# Altium schematic symbol library WS-RSTV.SchLib: 28 symbols
Pins are listed as number, name and electrical type; pins without a type are passive.

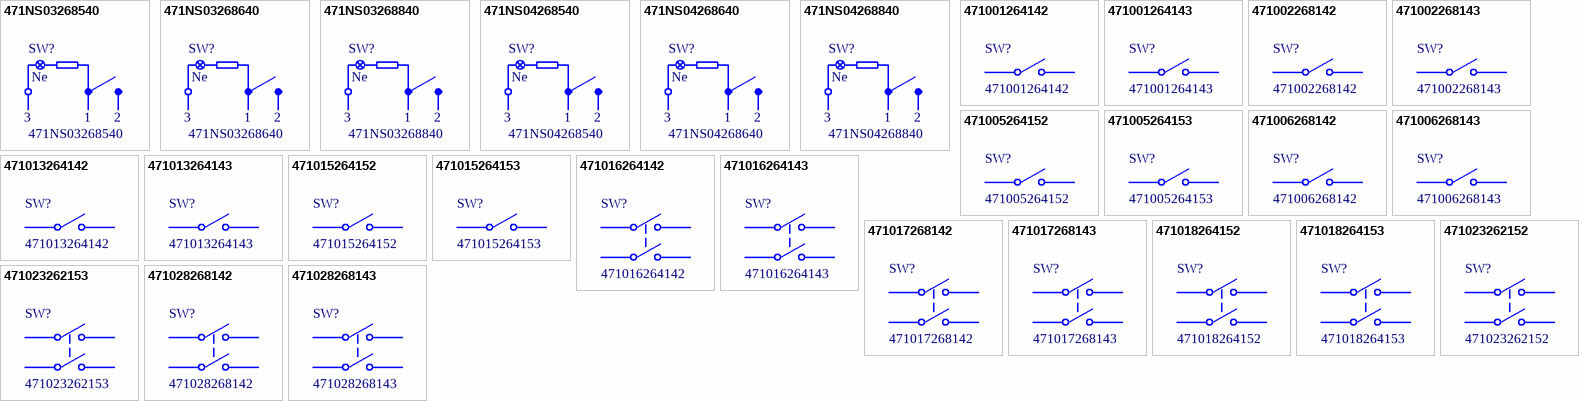
[diagram p0: symbols 471NS03268540 to 471028268143]

## 471NS03268540
designator SW?
WS-RSTV Illuminated panel Cut-out Ø 20.2 mm with 0.187’’ quick connect terminal Rocker switch, SPST, 250V, 10A; Manufacturer: Wurth Elektronik; Actuator Color: Red Transparent; Contact Resistance: 50mΩ; Frame Color: Black; Ingress Protection Code: None; Manufacturer Part Number: 471NS03268540; Category: Rocker Switch; Match Code: WS-RSTV; ComponentLink1Description: Website Link; ComponentLink1URL: https://www.we-online.com/redexpert/article/471NS03268540?ad; ComponentLink2Description: Datasheet Link; ComponentLink2URL: https://www.we-online.com/redexpert/spec/471NS03268540?ad; Mount: Manual; Min Operating Temperature: 0°C; Max Operating Temperature: 85°C; Packaging: Tray; Circuit: SPST; Rated Current: 10A; Rated Voltage: 250V
footprint 471NS03268540_Panel 1.5mm
footprint 471NS03268540_Panel 2.5/3mm
text: Ne; 3; 1; 2

## 471NS03268640
designator SW?
WS-RSTV Illuminated panel Cut-out Ø 20.2 mm with 0.187’’ quick connect terminal Rocker switch, SPST, 250V, 10A; Manufacturer: Wurth Elektronik; Actuator Color: Amber Transparent; Contact Resistance: 50mΩ; Frame Color: Black; Ingress Protection Code: None; Manufacturer Part Number: 471NS03268640; Category: Rocker Switch; Match Code: WS-RSTV; ComponentLink1Description: Website Link; ComponentLink1URL: https://www.we-online.com/redexpert/article/471NS03268640?ad; ComponentLink2Description: Datasheet Link; ComponentLink2URL: https://www.we-online.com/redexpert/spec/471NS03268640?ad; Mount: Manual; Min Operating Temperature: 0°C; Max Operating Temperature: 85°C; Packaging: Tray; Circuit: SPST; Rated Current: 10A; Rated Voltage: 250V
footprint 471NS03268640_Panel 1.5mm
footprint 471NS03268640_Panel 2.5/3mm
text: Ne; 3; 1; 2

## 471NS03268840
designator SW?
WS-RSTV Illuminated panel Cut-out Ø 20.2 mm with 0.187’’ quick connect terminal Rocker switch, SPST, 250V, 10A; Manufacturer: Wurth Elektronik; Actuator Color: Green Transparent; Contact Resistance: 50mΩ; Frame Color: Black; Ingress Protection Code: None; Manufacturer Part Number: 471NS03268840; Category: Rocker Switch; Match Code: WS-RSTV; ComponentLink1Description: Website Link; ComponentLink1URL: https://www.we-online.com/redexpert/article/471NS03268840?ad; ComponentLink2Description: Datasheet Link; ComponentLink2URL: https://www.we-online.com/redexpert/spec/471NS03268840?ad; Mount: Manual; Min Operating Temperature: 0°C; Max Operating Temperature: 85°C; Packaging: Tray; Circuit: SPST; Rated Current: 10A; Rated Voltage: 250V
footprint 471NS03268840_Panel 1.5mm
footprint 471NS03268840_Panel 2.5/3mm
text: Ne; 3; 1; 2

## 471NS04268540
designator SW?
WS-RSTV Illuminated panel Cut-out Ø 20.2 mm with 0.187’’ quick connect terminal Rocker switch, SPST, 250V, 10A; Manufacturer: Wurth Elektronik; Actuator Color: Red Transparent; Contact Resistance: 50mΩ; Frame Color: Black; Ingress Protection Code: None; Manufacturer Part Number: 471NS04268540; Category: Rocker Switch; Match Code: WS-RSTV; ComponentLink1Description: Website Link; ComponentLink1URL: https://www.we-online.com/redexpert/article/471NS04268540?ad; ComponentLink2Description: Datasheet Link; ComponentLink2URL: https://www.we-online.com/redexpert/spec/471NS04268540?ad; Mount: Manual; Min Operating Temperature: 0°C; Max Operating Temperature: 85°C; Packaging: Tray; Circuit: SPST; Rated Current: 10A; Rated Voltage: 250V
footprint 471NS04268540_Panel 1.5mm
footprint 471NS04268540_Panel 2.5/3mm
text: Ne; 3; 1; 2

## 471NS04268640
designator SW?
WS-RSTV Illuminated panel Cut-out Ø 20.2 mm with 0.187’’ quick connect terminal Rocker switch, SPST, 250V, 10A; Manufacturer: Wurth Elektronik; Actuator Color: Amber Transparent; Contact Resistance: 50mΩ; Frame Color: Black; Ingress Protection Code: None; Manufacturer Part Number: 471NS04268640; Category: Rocker Switch; Match Code: WS-RSTV; ComponentLink1Description: Website Link; ComponentLink1URL: https://www.we-online.com/redexpert/article/471NS04268640?ad; ComponentLink2Description: Datasheet Link; ComponentLink2URL: https://www.we-online.com/redexpert/spec/471NS04268640?ad; Mount: Manual; Min Operating Temperature: 0°C; Max Operating Temperature: 85°C; Packaging: Tray; Circuit: SPST; Rated Current: 10A; Rated Voltage: 250V
footprint 471NS04268640_Panel 1.5mm
footprint 471NS04268640_Panel 2.5/3mm
text: Ne; 3; 1; 2

## 471NS04268840
designator SW?
WS-RSTV Illuminated panel Cut-out Ø 20.2 mm with 0.187’’ quick connect terminal Rocker switch, SPST, 250V, 10A; Manufacturer: Wurth Elektronik; Actuator Color: Green Transparent; Contact Resistance: 50mΩ; Frame Color: Black; Ingress Protection Code: None; Manufacturer Part Number: 471NS04268840; Category: Rocker Switch; Match Code: WS-RSTV; ComponentLink1Description: Website Link; ComponentLink1URL: https://www.we-online.com/redexpert/article/471NS04268840?ad; ComponentLink2Description: Datasheet Link; ComponentLink2URL: https://www.we-online.com/redexpert/spec/471NS04268840?ad; Mount: Manual; Min Operating Temperature: 0°C; Max Operating Temperature: 85°C; Packaging: Tray; Circuit: SPST; Rated Current: 10A; Rated Voltage: 250V
footprint 471NS04268840_Panel 1.5mm
footprint 471NS04268840_Panel 2.5/3mm
text: Ne; 3; 1; 2

## 471001264142
designator SW?
WS-RSTV 19.2 x 12.9 mm Panel Cut-Out Rocker Switch with 0.187” quick connect terminal, SPST, 250V, 16A; Manufacturer: Wurth Elektronik; Actuator Color: Black; Contact Resistance: 20mΩ; Ingress Protection Code: None; Manufacturer Part Number: 471001264142; Category: Rocker Switch; Match Code: WS-RSTV; ComponentLink1Description: Website Link; ComponentLink1URL: https://www.we-online.com/redexpert/article/471001264142?ad; ComponentLink2Description: Datasheet Link; ComponentLink2URL: https://www.we-online.com/redexpert/spec/471001264142?ad; Mount: Manual; Min Operating Temperature: 0°C; Max Operating Temperature: 85°C; Packaging: Bulk; Circuit: SPST; Frame Color: Black; Rated Current: 16A; Rated Voltage: 250V
footprint 471001264142_Panel 0.75-1.25mm
footprint 471001264142_Panel 1.25-2mm
footprint 471001264142_Panel 2-3mm

## 471001264143
designator SW?
WS-RSTV 19.2 x 12.9 mm Panel Cut-Out Rocker Switch with 0.187” quick connect terminal, SPST, 250V, 16A; Manufacturer: Wurth Elektronik; Actuator Color: Black; Contact Resistance: 20mΩ; Ingress Protection Code: None; Manufacturer Part Number: 471001264143; Category: Rocker Switch; Match Code: WS-RSTV; ComponentLink1Description: Website Link; ComponentLink1URL: https://www.we-online.com/redexpert/article/471001264143?ad; ComponentLink2Description: Datasheet Link; ComponentLink2URL: https://www.we-online.com/redexpert/spec/471001264143?ad; Mount: Manual; Min Operating Temperature: 0°C; Max Operating Temperature: 85°C; Packaging: Bulk; Circuit: SPST; Frame Color: Black; Rated Current: 16A; Rated Voltage: 250V
footprint 471001264143_Panel 0.75-1.25mm
footprint 471001264143_Panel 1.25-2mm
footprint 471001264143_Panel 2-3mm

## 471002268142
designator SW?
WS-RSTV Ø 20.2 mm Panel Cut-Out Rocker Switch with 0.187" quick connect terminal (SPST), SPST, 250V, 10A; Manufacturer: Wurth Elektronik; Actuator Color: Black; Contact Resistance: 50mΩ; Ingress Protection Code: None; Manufacturer Part Number: 471002268142; Category: Rocker Switch; Match Code: WS-RSTV; ComponentLink1Description: Website Link; ComponentLink1URL: https://www.we-online.com/redexpert/article/471002268142?ad; ComponentLink2Description: Datasheet Link; ComponentLink2URL: https://www.we-online.com/redexpert/spec/471002268142?ad; Mount: Manual; Min Operating Temperature: 0°C; Max Operating Temperature: 85°C; Packaging: Tray; Circuit: SPST; Frame Color: Black; Rated Current: 10A; Rated Voltage: 250V
footprint 471002268142_Panel 1.5mm
footprint 471002268142_Panel 2.5/3mm

## 471002268143
designator SW?
WS-RSTV Ø 20.2 mm Panel Cut-Out Rocker Switch with 0.187" quick connect terminal (SPST), SPST, 250V, 10A; Manufacturer: Wurth Elektronik; Actuator Color: Black; Contact Resistance: 50mΩ; Ingress Protection Code: None; Manufacturer Part Number: 471002268143; Category: Rocker Switch; Match Code: WS-RSTV; ComponentLink1Description: Website Link; ComponentLink1URL: https://www.we-online.com/redexpert/article/471002268143?ad; ComponentLink2Description: Datasheet Link; ComponentLink2URL: https://www.we-online.com/redexpert/spec/471002268143?ad; Mount: Manual; Min Operating Temperature: 0°C; Max Operating Temperature: 85°C; Packaging: Tray; Circuit: SPST; Frame Color: Black; Rated Current: 10A; Rated Voltage: 250V
footprint 471002268143_Panel 1.5mm
footprint 471002268143_Panel 2.5/3mm

## 471005264152
designator SW?
WS-RSTV 27.6 x 13.8 mm Panel Cut-Out Rocker Switch with 0.25'' quick connect terminal, SPST, 250V, 16A; Manufacturer: Wurth Elektronik; Actuator Color: Black; Contact Resistance: 50mΩ; Ingress Protection Code: None; Manufacturer Part Number: 471005264152; Category: Rocker Switch; Match Code: WS-RSTV; ComponentLink1Description: Website Link; ComponentLink1URL: https://www.we-online.com/redexpert/article/471005264152?ad; ComponentLink2Description: Datasheet Link; ComponentLink2URL: https://www.we-online.com/redexpert/spec/471005264152?ad; Mount: Manual; Min Operating Temperature: 0°C; Max Operating Temperature: 85°C; Packaging: Tray; Circuit: SPST; Frame Color: Black; Rated Current: 16A; Rated Voltage: 250V
footprint 471005264152_Panel 1-3mm
footprint 471005264152_Panel 3-4mm
footprint 471005264152_Panel 4-5mm

## 471005264153
designator SW?
WS-RSTV 27.6 x 13.8 mm Panel Cut-Out Rocker Switch with 0.25'' quick connect terminal, SPST, 250V, 16A; Manufacturer: Wurth Elektronik; Actuator Color: Black; Contact Resistance: 50mΩ; Ingress Protection Code: None; Manufacturer Part Number: 471005264153; Category: Rocker Switch; Match Code: WS-RSTV; ComponentLink1Description: Website Link; ComponentLink1URL: https://www.we-online.com/redexpert/article/471005264153?ad; ComponentLink2Description: Datasheet Link; ComponentLink2URL: https://www.we-online.com/redexpert/spec/471005264153?ad; Mount: Manual; Min Operating Temperature: 0°C; Max Operating Temperature: 85°C; Packaging: Tray; Circuit: SPST; Frame Color: Black; Rated Current: 16A; Rated Voltage: 250V
footprint 471005264153_Panel 1-3mm
footprint 471005264153_Panel 3-4mm
footprint 471005264153_Panel 4-5mm

## 471006268142
designator SW?
WS-RSTV IP65 Ø 20.2 mm panel Cut-out with 0.187’’ quick connect terminal Rocker Switch, SPST, 250V, 10A; Manufacturer: Wurth Elektronik; Actuator Color: Black; Contact Resistance: 50mΩ; Manufacturer Part Number: 471006268142; Category: Rocker Switch; Match Code: WS-RSTV; ComponentLink1Description: Website Link; ComponentLink1URL: https://www.we-online.com/redexpert/article/471006268142?ad; ComponentLink2Description: Datasheet Link; ComponentLink2URL: https://www.we-online.com/redexpert/spec/471006268142?ad; Mount: Manual; Min Operating Temperature: 0°C; Max Operating Temperature: 85°C; Packaging: Tray; Circuit: SPST; Frame Color: Black; Ingress Protection Code: IP65; Rated Current: 10A; Rated Voltage: 250V
footprint 471006268142_Panel 1.5mm
footprint 471006268142_Panel 2.5mm

## 471006268143
designator SW?
WS-RSTV IP65 Ø 20.2 mm panel Cut-out with 0.187’’ quick connect terminal Rocker Switch, SPST, 250V, 10A; Manufacturer: Wurth Elektronik; Actuator Color: Black; Contact Resistance: 50mΩ; Manufacturer Part Number: 471006268143; Category: Rocker Switch; Match Code: WS-RSTV; ComponentLink1Description: Website Link; ComponentLink1URL: https://www.we-online.com/redexpert/article/471006268143?ad; ComponentLink2Description: Datasheet Link; ComponentLink2URL: https://www.we-online.com/redexpert/spec/471006268143?ad; Mount: Manual; Min Operating Temperature: 0°C; Max Operating Temperature: 85°C; Packaging: Tray; Circuit: SPST; Frame Color: Black; Ingress Protection Code: IP65; Rated Current: 10A; Rated Voltage: 250V
footprint 471006268143_Panel 1.5mm
footprint 471006268143_Panel 2.5mm

## 471013264142
designator SW?
WS-RSTV 19.2 x 6.8 mm Panel Cut-out with 0.187’’ quick connect terminal, SPST, 250V, 16A; Manufacturer: Wurth Elektronik; Actuator Color: Black; Contact Resistance: 20mΩ; Ingress Protection Code: None; Manufacturer Part Number: 471013264142; Category: Rocker Switch; Match Code: WS-RSTV; ComponentLink1Description: Website Link; ComponentLink1URL: https://www.we-online.com/redexpert/article/471013264142?ad; ComponentLink2Description: Datasheet Link; ComponentLink2URL: https://www.we-online.com/redexpert/spec/471013264142?ad; Mount: Manual; Min Operating Temperature: 0°C; Max Operating Temperature: 85°C; Packaging: Bag; Circuit: SPST; Frame Color: Black; Rated Current: 16A; Rated Voltage: 250V
footprint 471013264142_Panel 0.75-1.25mm
footprint 471013264142_Panel 1.25-2.00mm
footprint 471013264142_Panel 2.00-3.00mm

## 471013264143
designator SW?
WS-RSTV 19.2 x 6.8 mm Panel Cut-out with 0.187’’ quick connect terminal, SPST, 250V, 16A; Manufacturer: Wurth Elektronik; Actuator Color: Black; Contact Resistance: 20mΩ; Ingress Protection Code: None; Manufacturer Part Number: 471013264143; Category: Rocker Switch; Match Code: WS-RSTV; ComponentLink1Description: Website Link; ComponentLink1URL: https://www.we-online.com/redexpert/article/471013264143?ad; ComponentLink2Description: Datasheet Link; ComponentLink2URL: https://www.we-online.com/redexpert/spec/471013264143?ad; Mount: Manual; Min Operating Temperature: 0°C; Max Operating Temperature: 85°C; Packaging: Bag; Circuit: SPST; Frame Color: Black; Rated Current: 16A; Rated Voltage: 250V
footprint 471013264143_Panel 0.75-1.25mm
footprint 471013264143_Panel 1.25-2.00mm
footprint 471013264143_Panel 2.00-3.00mm

## 471015264152
designator SW?
WS-RSTV IP65 27.6 x 13.8 mm Panel Cut-out with 0.25'' Quick connect terminal, SPST, 250V, 16A; Manufacturer: Wurth Elektronik; Actuator Color: Black; Contact Resistance: 50mΩ; Manufacturer Part Number: 471015264152; Category: Rocker Switch; Match Code: WS-RSTV; ComponentLink1Description: Website Link; ComponentLink1URL: https://www.we-online.com/redexpert/article/471015264152?ad; ComponentLink2Description: Datasheet Link; ComponentLink2URL: https://www.we-online.com/redexpert/spec/471015264152?ad; Mount: Manual; Min Operating Temperature: 0°C; Max Operating Temperature: 85°C; Packaging: Tray; Circuit: SPST; Frame Color: Black; Rated Current: 16A; Rated Voltage: 250V
footprint 471015264152_Panel 1.00-3.00mm
footprint 471015264152_Panel 3.00-4.00mm
footprint 471015264152_Panel 4.00-4.50mm

## 471015264153
designator SW?
WS-RSTV IP65 27.6 x 13.8 mm Panel Cut-out with 0.25'' Quick connect terminal, SPST, 250V, 16A; Manufacturer: Wurth Elektronik; Actuator Color: Black; Contact Resistance: 50mΩ; Manufacturer Part Number: 471015264153; Category: Rocker Switch; Match Code: WS-RSTV; ComponentLink1Description: Website Link; ComponentLink1URL: https://www.we-online.com/redexpert/article/471015264153?ad; ComponentLink2Description: Datasheet Link; ComponentLink2URL: https://www.we-online.com/redexpert/spec/471015264153?ad; Mount: Manual; Min Operating Temperature: 0°C; Max Operating Temperature: 85°C; Packaging: Tray; Circuit: SPST; Frame Color: Black; Rated Current: 16A; Rated Voltage: 250V
footprint 471015264153_Panel 1.00-3.00mm
footprint 471015264153_Panel 3.00-4.00mm
footprint 471015264153_Panel 4.00-4.50mm

## 471016264142
designator SW?
WS-RSTV 19.2 x 12.9 mm panel cut-out rocker switch with 0.187” quick connect terminal, DPST, 250V, 16A; Manufacturer: Wurth Elektronik; Actuator Color: Black; Contact Resistance: 20mΩ; Manufacturer Part Number: 471016264142; Category: Rocker Switch; Match Code: WS-RSTV; ComponentLink1Description: Website Link; ComponentLink1URL: https://www.we-online.com/redexpert/article/471016264142?ad; ComponentLink2Description: Datasheet Link; ComponentLink2URL: https://www.we-online.com/redexpert/spec/471016264142?ad; Mount: Manual; Min Operating Temperature: 0°C; Max Operating Temperature: 85°C; Packaging: Bag; Circuit: DPST; Frame Color: Black; Rated Current: 16A; Rated Voltage: 250V
footprint 471016264142_Panel 0.75-1.25mm
footprint 471016264142_Panel 1.25-2.00mm
footprint 471016264142_Panel 2.00-3.00mm

## 471016264143
designator SW?
WS-RSTV 19.2 x 12.9 mm Panel Cut-Out Rocker Switch with 0.187” quick connect terminal, DPST, 250V, 16A; Manufacturer: Wurth Elektronik; Actuator Color: Black; Contact Resistance: 20mΩ; Ingress Protection Code: None; Manufacturer Part Number: 471016264143; Category: Rocker Switch; Match Code: WS-RSTV; ComponentLink1Description: Website Link; ComponentLink1URL: https://www.we-online.com/redexpert/article/471016264143?ad; ComponentLink2Description: Datasheet Link; ComponentLink2URL: https://www.we-online.com/redexpert/spec/471016264143?ad; Mount: Manual; Min Operating Temperature: 0°C; Max Operating Temperature: 85°C; Packaging: Bulk; Circuit: DPST; Frame Color: Black; Rated Current: 16A; Rated Voltage: 250V
footprint 471016264143_Panel 0.75-1.25mm
footprint 471016264143_Panel 1.25-2mm
footprint 471016264143_Panel 2-3mm

## 471017268142
designator SW?
WS-RSTV Ø 20.2 mm Panel Cut-Out Rocker Switch 0.187" quick connect terminal (DPST), DPST, 250V, 10A; Manufacturer: Wurth Elektronik; Actuator Color: Black; Contact Resistance: 20mΩ; Ingress Protection Code: None; Manufacturer Part Number: 471017268142; Category: Rocker Switch; Match Code: WS-RSTV; ComponentLink1Description: Website Link; ComponentLink1URL: https://www.we-online.com/redexpert/article/471017268142?ad; ComponentLink2Description: Datasheet Link; ComponentLink2URL: https://www.we-online.com/redexpert/spec/471017268142?ad; Mount: Manual; Min Operating Temperature: 0°C; Max Operating Temperature: 85°C; Packaging: Bulk; Circuit: DPST; Frame Color: Black; Rated Current: 10A; Rated Voltage: 250V
footprint 471017268142_Panel 1.5mm
footprint 471017268142_Panel 2.5/3mm

## 471017268143
designator SW?
WS-RSTV Ø 20.2 mm Panel Cut-Out Rocker Switch 0.187" quick connect terminal (DPST), DPST, 250V, 10A; Manufacturer: Wurth Elektronik; Actuator Color: Black; Contact Resistance: 20mΩ; Ingress Protection Code: None; Manufacturer Part Number: 471017268143; Category: Rocker Switch; Match Code: WS-RSTV; ComponentLink1Description: Website Link; ComponentLink1URL: https://www.we-online.com/redexpert/article/471017268143?ad; ComponentLink2Description: Datasheet Link; ComponentLink2URL: https://www.we-online.com/redexpert/spec/471017268143?ad; Mount: Manual; Min Operating Temperature: 0°C; Max Operating Temperature: 85°C; Packaging: Bulk; Circuit: DPST; Frame Color: Black; Rated Current: 10A; Rated Voltage: 250V
footprint 471017268143_Panel 1.5mm
footprint 471017268143_Panel 2.5/3mm

## 471018264152
designator SW?
WS-RSTV 30.2 x 22.2 mm panel cut-out with 0.25" quick connect terminal, DPST, 250V, 10A; Manufacturer: Wurth Elektronik; Actuator Color: Black; Contact Resistance: 50mΩ; Manufacturer Part Number: 471018264152; Category: Rocker Switch; Match Code: WS-RSTV; ComponentLink1Description: Website Link; ComponentLink1URL: https://www.we-online.com/redexpert/article/471018264152?ad; ComponentLink2Description: Datasheet Link; ComponentLink2URL: https://www.we-online.com/redexpert/spec/471018264152?ad; Mount: Manual; Min Operating Temperature: 0°C; Max Operating Temperature: 85°C; Packaging: Tray; Circuit: DPST; Frame Color: Black; Rated Current: 10A; Rated Voltage: 250V
footprint 471018264152_Panel 0.75-1.25mm
footprint 471018264152_Panel 1.25-2.00mm
footprint 471018264152_Panel 2.00-4.00mm

## 471018264153
designator SW?
WS-RSTV 30.2 x 22.2 mm panel cut-out with 0.25" quick connect terminal, DPST, 250V, 10A; Manufacturer: Wurth Elektronik; Actuator Color: Black; Contact Resistance: 50mΩ; Manufacturer Part Number: 471018264153; Category: Rocker Switch; Match Code: WS-RSTV; ComponentLink1Description: Website Link; ComponentLink1URL: https://www.we-online.com/redexpert/article/471018264153?ad; ComponentLink2Description: Datasheet Link; ComponentLink2URL: https://www.we-online.com/redexpert/spec/471018264153?ad; Mount: Manual; Min Operating Temperature: 0°C; Max Operating Temperature: 85°C; Packaging: Tray; Circuit: DPST; Frame Color: Black; Rated Current: 10A; Rated Voltage: 250V
footprint 471018264153_Panel 0.75-1.25mm
footprint 471018264153_Panel 1.25-2.00mm
footprint 471018264153_Panel 2.00-4.00mm

## 471023262152
designator SW?
WS-RSTV IP65 30.2 x 22.2 mm panel cut-out with 0.25" quick connect terminal, DPST, 250V, 10A; Manufacturer: Wurth Elektronik; Actuator Color: Black; Contact Resistance: 50mΩ; Manufacturer Part Number: 471023262152; Category: Rocker Switch; Match Code: WS-RSTV; ComponentLink1Description: Website Link; ComponentLink1URL: https://www.we-online.com/redexpert/article/471023262152?ad; ComponentLink2Description: Datasheet Link; ComponentLink2URL: https://www.we-online.com/redexpert/spec/471023262152?ad; Mount: Manual; Min Operating Temperature: 0°C; Max Operating Temperature: 85°C; Packaging: Tray; Circuit: DPST; Frame Color: Black; Rated Current: 10A; Rated Voltage: 250V
footprint 471023262152_Panel 0.75-1.25mm
footprint 471023262152_Panel 1.25-2.00mm
footprint 471023262152_Panel 2.00-4.00mm

## 471023262153
designator SW?
WS-RSTV IP65 30.2 x 22.2 mm panel cut-out with 0.25" quick connect terminal, DPST, 250V, 10A; Manufacturer: Wurth Elektronik; Actuator Color: Black; Contact Resistance: 50mΩ; Manufacturer Part Number: 471023262153; Category: Rocker Switch; Match Code: WS-RSTV; ComponentLink1Description: Website Link; ComponentLink1URL: https://www.we-online.com/redexpert/article/471023262153?ad; ComponentLink2Description: Datasheet Link; ComponentLink2URL: https://www.we-online.com/redexpert/spec/471023262153?ad; Mount: Manual; Min Operating Temperature: 0°C; Max Operating Temperature: 85°C; Packaging: Tray; Circuit: DPST; Frame Color: Black; Rated Current: 10A; Rated Voltage: 250V
footprint 471023262153_Panel 0.75-1.25mm
footprint 471023262153_Panel 1.25-2.00mm
footprint 471023262153_Panel 2.00-4.00mm

## 471028268142
designator SW?
WS-RSTV IP65 Ø 20.2 mm panel cut-out rocker switch with 0.187" quick connect terminal, DPST, 250V, 10A; Manufacturer: Wurth Elektronik; Actuator Color: Black; Contact Resistance: 50mΩ; Manufacturer Part Number: 471028268142; Category: Rocker Switch; Match Code: WS-RSTV; ComponentLink1Description: Website Link; ComponentLink1URL: https://www.we-online.com/redexpert/article/471028268142?ad; ComponentLink2Description: Datasheet Link; ComponentLink2URL: https://www.we-online.com/redexpert/spec/471028268142?ad; Mount: Manual; Min Operating Temperature: 0°C; Max Operating Temperature: 85°C; Packaging: Tray; Circuit: DPST; Frame Color: Black; Rated Current: 10A; Rated Voltage: 250V
footprint 471028268142_Panel 1.5mm
footprint 471028268142_Panel 2.5/3mm

## 471028268143
designator SW?
WS-RSTV IP65 Ø 20.2 mm panel cut-out rocker switch with 0.187" quick connect terminal, DPST, 250V, 10A; Manufacturer: Wurth Elektronik; Actuator Color: Black; Contact Resistance: 50mΩ; Manufacturer Part Number: 471028268143; Category: Rocker Switch; Match Code: WS-RSTV; ComponentLink1Description: Website Link; ComponentLink1URL: https://www.we-online.com/redexpert/article/471028268143?ad; ComponentLink2Description: Datasheet Link; ComponentLink2URL: https://www.we-online.com/redexpert/spec/471028268143?ad; Mount: Manual; Min Operating Temperature: 0°C; Max Operating Temperature: 85°C; Packaging: Tray; Circuit: DPST; Frame Color: Black; Rated Current: 10A; Rated Voltage: 250V
footprint 471028268143_Panel 1.5mm
footprint 471028268143_Panel 2.5/3mm